# Altium schematic symbol library SCH - MCU - INFINEON XMC - INFINEON XMC1402Q040.SchLib: 1 symbol
Pins are listed as number, name and electrical type; pins without a type are passive.

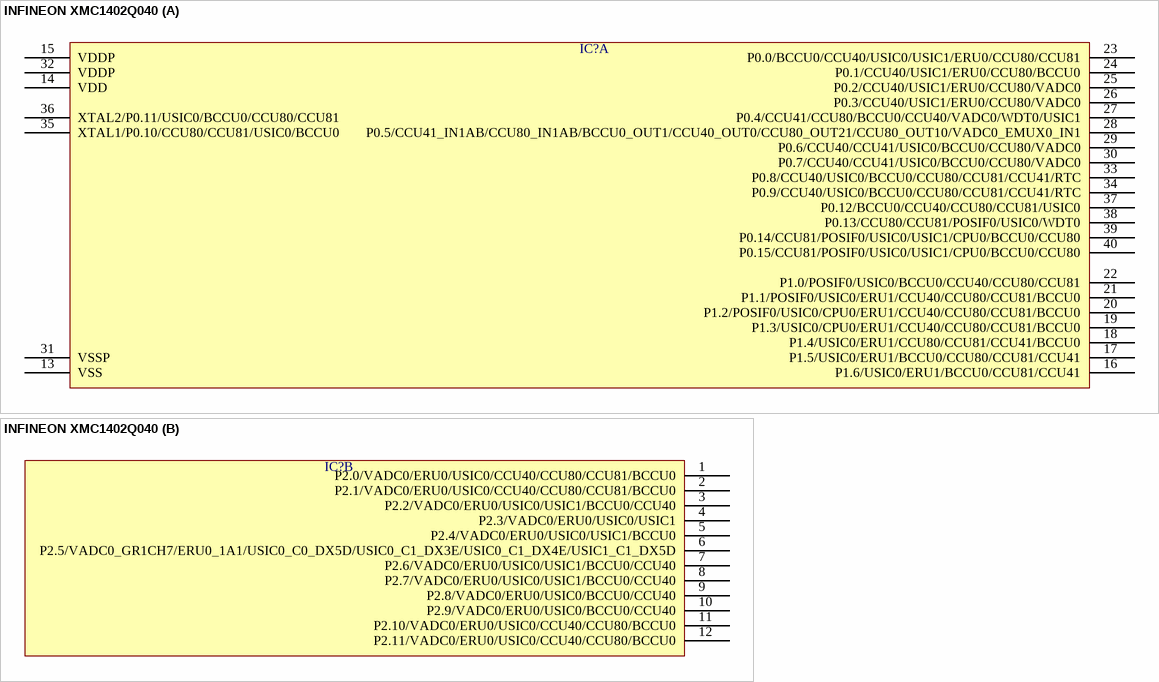
[diagram p0: symbol INFINEON XMC1402Q040]

## INFINEON XMC1402Q040
designator IC?  (value not drawn)
part A pins: 13 VSS, 14 VDD, 15 VDDP, 16 P1.6/USIC0/ERU1/BCCU0/CCU81/CCU41, 17 P1.5/USIC0/ERU1/BCCU0/CCU80/CCU81/CCU41, 18 P1.4/USIC0/ERU1/CCU80/CCU81/CCU41/BCCU0, 19 P1.3/USIC0/CPU0/ERU1/CCU40/CCU80/CCU81/BCCU0, 20 P1.2/POSIF0/USIC0/CPU0/ERU1/CCU40/CCU80/CCU81/BCCU0, 21 P1.1/POSIF0/USIC0/ERU1/CCU40/CCU80/CCU81/BCCU0, 22 P1.0/POSIF0/USIC0/BCCU0/CCU40/CCU80/CCU81, 23 P0.0/BCCU0/CCU40/USIC0/USIC1/ERU0/CCU80/CCU81, 24 P0.1/CCU40/USIC1/ERU0/CCU80/BCCU0, 25 P0.2/CCU40/USIC1/ERU0/CCU80/VADC0, 26 P0.3/CCU40/USIC1/ERU0/CCU80/VADC0, 27 P0.4/CCU41/CCU80/BCCU0/CCU40/VADC0/WDT0/USIC1, 28 P0.5/CCU41_IN1AB/CCU80_IN1AB/BCCU0_OUT1/CCU40_OUT0/CCU80_OUT21/CCU80_OUT10/VADC0_EMUX0_IN1, 29 P0.6/CCU40/CCU41/USIC0/BCCU0/CCU80/VADC0, 30 P0.7/CCU40/CCU41/USIC0/BCCU0/CCU80/VADC0, 31 VSSP, 32 VDDP, 33 P0.8/CCU40/USIC0/BCCU0/CCU80/CCU81/CCU41/RTC, 34 P0.9/CCU40/USIC0/BCCU0/CCU80/CCU81/CCU41/RTC, 35 XTAL1/P0.10/CCU80/CCU81/USIC0/BCCU0, 36 XTAL2/P0.11/USIC0/BCCU0/CCU80/CCU81, 37 P0.12/BCCU0/CCU40/CCU80/CCU81/USIC0, 38 P0.13/CCU80/CCU81/POSIF0/USIC0/WDT0, 39 P0.14/CCU81/POSIF0/USIC0/USIC1/CPU0/BCCU0/CCU80, 40 P0.15/CCU81/POSIF0/USIC0/USIC1/CPU0/BCCU0/CCU80
part B pins: 1 P2.0/VADC0/ERU0/USIC0/CCU40/CCU80/CCU81/BCCU0, 2 P2.1/VADC0/ERU0/USIC0/CCU40/CCU80/CCU81/BCCU0, 3 P2.2/VADC0/ERU0/USIC0/USIC1/BCCU0/CCU40, 4 P2.3/VADC0/ERU0/USIC0/USIC1, 5 P2.4/VADC0/ERU0/USIC0/USIC1/BCCU0, 6 P2.5/VADC0_GR1CH7/ERU0_1A1/USIC0_C0_DX5D/USIC0_C1_DX3E/USIC0_C1_DX4E/USIC1_C1_DX5D, 7 P2.6/VADC0/ERU0/USIC0/USIC1/BCCU0/CCU40, 8 P2.7/VADC0/ERU0/USIC0/USIC1/BCCU0/CCU40, 9 P2.8/VADC0/ERU0/USIC0/BCCU0/CCU40, 10 P2.9/VADC0/ERU0/USIC0/BCCU0/CCU40, 11 P2.10/VADC0/ERU0/USIC0/CCU40/CCU80/BCCU0, 12 P2.11/VADC0/ERU0/USIC0/CCU40/CCU80/BCCU0